# Altium schematic symbol library a_Valider_LDG.SchLib: 17 symbols
Pins are listed as number, name and electrical type; pins without a type are passive.

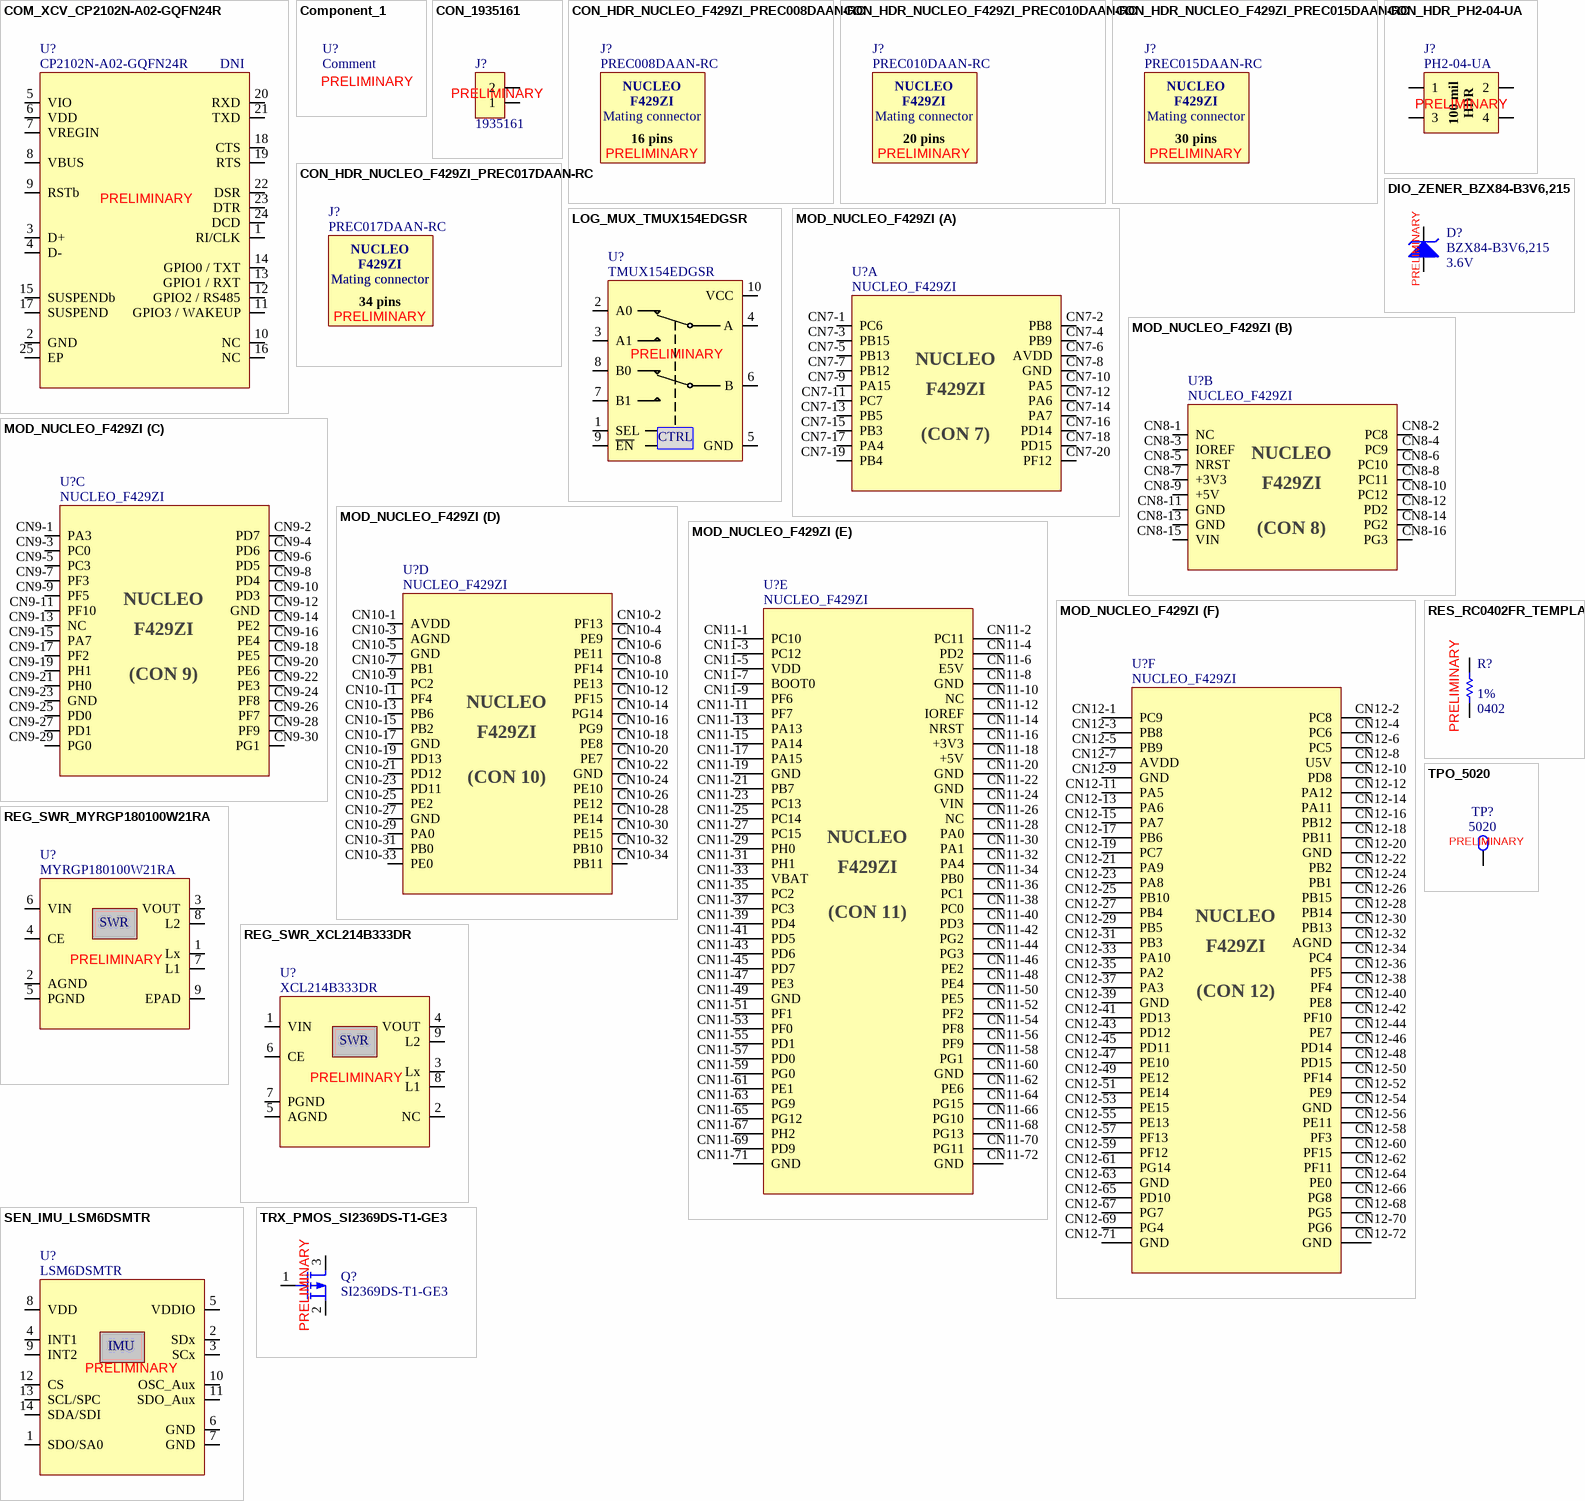
[diagram p0: symbols COM_XCV_CP2102N-A02-GQFN24R to TRX_PMOS_SI2369DS-T1-GE3]

## COM_XCV_CP2102N-A02-GQFN24R
designator U?, comment CP2102N-A02-GQFN24R  Assembly Note: DNI
COM_XCV - IC USB TO UART BRIDGE - 24-QFN (4x4); Manufacturer #1: Silicon Labs; Voltage Rating: 3V ~ 3.6V; Current Rating: 9.5mA; Power Max: 35mW; GRAMS Lib Spec: 2.8c; Magnetic Material: Unknown; Polarized: YES; Value: -; Tolerance: -; HelpURL: https://www.silabs.com/documents/public/data-sheets/cp2102n-datasheet.pdf; CreatedBy/Date: Louis-Daniel Gaulin / 06-10-2020; Temperature: -40°C ~ 85°C (TA); Package: 24-QFN (4x4); Manufacturer #2: -; Note: -; Assembly Type: SMD; Part Number #2: -; Part Number #1: CP2102N-A02-GQFN24R; Supplier 1: Digi-Key; Supplier Part Number 1: 336-5888-1-ND
footprint COM_XCV_CP2102N-A02-GQFN24R (QFN, 24-Leads, Body 4.00x4.00mm, Pitch 0.50mm, Thermal Pad 2.55x2.55mm, IPC Medium Density)
pins: 1 RI/CLK, 2 GND, 3 D+, 4 D-, 5 VIO, 6 VDD, 7 VREGIN, 8 VBUS, 9 RSTb, 10 NC, 11 GPIO3 / WAKEUP, 12 GPIO2 / RS485, 13 GPIO1 / RXT, 14 GPIO0 / TXT, 15 SUSPENDb, 16 NC, 17 SUSPEND, 18 CTS, 19 RTS, 20 RXD, 21 TXD, 22 DSR, 23 DTR, 24 DCD, 25 EP
text: PRELIMINARY

## Component_1
designator U?, comment Comment
XXX - Description - Package; GRAMS Lib Spec: 2.7
text: PRELIMINARY

## CON_1935161
designator J?, comment 1935161
CON - TERM BLK 2POS SIDE ENTRY 5MM PCB - TH; Manufacturer #1: Phoenix Contact; Current Rating: 18A; Magnetic Material: Unknown; Polarized: Yes; Voltage Rating: 400V; GRAMS Lib Spec: 2.8; Assembly Type: TH; Manufacturer #2: *; Note: *; Part Number #1: 1935161; Part Number #2: *; Package: TH; Power Max: *; Value: *; Temperature: -40 °C ~ 100 °C; HelpURL: https://media.digikey.com/pdf/Data%20Sheets/Phoenix%20Contact%20PDFs/1935161.pdf; CreatedBy/Date: Louis-Daniel Gaulin / 02-11-2020; Supplier 1: Digi-Key; Supplier Part Number 1: 277-1667-ND; Tolerance: *; Cryo: UNKNOWN
footprint CON_ 1935161
pins: 1, 2
text: PRELIMINARY

## CON_HDR_NUCLEO_F429ZI_PREC008DAAN-RC
designator J?, comment PREC008DAAN-RC
CON - Header 16 positions 2x8  0.100" - TH; Manufacturer #1: Sullins Connector Solutions; Current Rating: 3A; GRAMS Lib Spec: 2.8; Magnetic Material: Unknown; Polarized: No; Voltage Rating: 1000VAC; Assembly Type: TH; CreatedBy/Date: Louis-Daniel Gaulin / 21-10-2020; HelpURL: https://drawings-pdf.s3.amazonaws.com/11636.pdf; Manufacturer #2: *; Package: TH; Part Number #2: *; Power Max: *; Supplier 1: Digi-Key; Supplier Part Number 1: S2012EC-08-ND; Temperature: -55°C ~ 105°C; Tolerance: *; Value: *; Part Number #1: PREC008DAAN-RC; Cryo: UNKNOWN
footprint CON_HDR_NUCLEO_F429ZI_C008DAAN-RC
text: NUCLEO; F429ZI; Mating connector; 16 pins; PRELIMINARY

## CON_HDR_NUCLEO_F429ZI_PREC010DAAN-RC
designator J?, comment PREC010DAAN-RC
CON - Header 20 positions 2x10  0.100" - TH; Manufacturer #1: Sullins Connector Solutions; Current Rating: 3A; GRAMS Lib Spec: 2.8; Magnetic Material: Unknown; Polarized: No; Voltage Rating: 1000VAC; Assembly Type: TH; CreatedBy/Date: Louis-Daniel Gaulin / 21-10-2020; HelpURL: https://drawings-pdf.s3.amazonaws.com/11636.pdf; Manufacturer #2: *; Package: TH; Part Number #2: *; Power Max: *; Supplier 1: Digi-Key; Supplier Part Number 1: S2012EC-10-ND; Temperature: -55°C ~ 105°C; Tolerance: *; Value: *; Part Number #1: PREC010DAAN-RC; Cryo: UNKNOWN
footprint CON_HDR_NUCLEO_F429ZI_C010DAAN-RC
text: NUCLEO; F429ZI; Mating connector; 20 pins; PRELIMINARY

## CON_HDR_NUCLEO_F429ZI_PREC015DAAN-RC
designator J?, comment PREC015DAAN-RC
CON - Header 30 positions 2x15  0.100" - TH; Manufacturer #1: Sullins Connector Solutions; Current Rating: 3A; GRAMS Lib Spec: 2.8; Magnetic Material: Unknown; Polarized: No; Voltage Rating: 1000VAC; Assembly Type: TH; CreatedBy/Date: Louis-Daniel Gaulin / 21-10-2020; HelpURL: https://drawings-pdf.s3.amazonaws.com/11636.pdf; Manufacturer #2: *; Package: TH; Part Number #2: *; Power Max: *; Supplier 1: Digi-Key; Supplier Part Number 1: S2012EC-15-ND; Temperature: -55°C ~ 105°C; Tolerance: *; Value: *; Part Number #1: PREC015DAAN-RC; Cryo: UNKNOWN
footprint CON_HDR_NUCLEO_F429ZI_C015DAAN-RC
text: NUCLEO; F429ZI; Mating connector; 30 pins; PRELIMINARY

## CON_HDR_NUCLEO_F429ZI_PREC017DAAN-RC
designator J?, comment PREC017DAAN-RC
CON - Header 34 positions 2x17  0.100" - TH; Manufacturer #1: Sullins Connector Solutions; Current Rating: 3A; GRAMS Lib Spec: 2.8; Magnetic Material: Unknown; Polarized: No; Voltage Rating: 1000VAC; Assembly Type: TH; CreatedBy/Date: Louis-Daniel Gaulin / 21-10-2020; HelpURL: https://drawings-pdf.s3.amazonaws.com/11636.pdf; Manufacturer #2: *; Package: TH; Part Number #2: *; Power Max: *; Supplier 1: Digi-Key; Supplier Part Number 1: S2012EC-17-ND; Temperature: -55°C ~ 105°C; Tolerance: *; Value: *; Part Number #1: PREC017DAAN-RC; Cryo: UNKNOWN
footprint CON_HDR_NUCLEO_F429ZI_C017DAAN-RC
text: NUCLEO; F429ZI; Mating connector; 34 pins; PRELIMINARY

## CON_HDR_PH2-04-UA
designator J?, comment PH2-04-UA
CON - Header 4 positions 2x2  0.100" - TH; Manufacturer #1: Adam Tech; Current Rating: 3A; GRAMS Lib Spec: 2.8; Magnetic Material: Unknown; Polarized: Yes; Voltage Rating: 250 VAC; Assembly Type: TH; CreatedBy/Date: Louis-Daniel Gaulin / 30-07-2020; HelpURL: http://www.adam-tech.com/downloader.php?p=PH2-XX-UA.pdf; Manufacturer #2: *; Package: TH; Part Number #2: *; Power Max: *; Supplier 1: Digi-Key; Supplier Part Number 1: 2057-PH2-04-UA-ND; Temperature: -55°C ~ 105°C; Tolerance: *; Value: *; Part Number #1: PH2-04-UA; Cryo: UNKNOWN
footprint CON_HDR_PH2-04-UA
pins: 1, 2, 3, 4
text: 100 mil; HDR; PRELIMINARY

## DIO_ZENER_BZX84-B3V6,215
designator D?, comment BZX84-B3V6,215  value 3.6V
DIO - ZENER 3.6V 250mW - SOT-23; Manufacturer #1: Nexperia USA Inc.; Current Rating: 70mA; GRAMS Lib Spec: 2.8; Magnetic Material: Unknown; Polarized: Yes; Tolerance: 2%; Assembly Type: SMD; CreatedBy/Date: Louis-Daniel Gaulin / 30-07-2020; HelpURL: https://assets.nexperia.com/documents/data-sheet/BZX84_SER.pdf; Manufacturer #2: -; Note: -; Package: SOT-23; Part Number #1: BZX84-B3V6,215; Part Number #2: -; Power Max: 250mW; Temperature: -65°C ~ 150°C; Voltage Rating: 3.6V; Supplier 1: Digi-Key; Supplier Part Number 1: 1727-6252-1-ND; Cryo: UNKNOWN
footprint DIO_ZENER_BZX84-B3V6,215
pins: 1 A, 2 NC hidden, 3 K
text: PRELIMINARY

## LOG_MUX_TMUX154EDGSR
designator U?, comment TMUX154EDGSR
LOG_MUX -  SWITCH SPDT DUAL 2:1 - 10-VSSOP; Manufacturer #1: Texas Instruments; Voltage Rating: 3V ~ 4.3V; Current Rating: 10uA; Power Max: 50uW; GRAMS Lib Spec: 2.8C; Magnetic Material: Unknown; Polarized: YES; Value: -; Tolerance: -; HelpURL: https://www.ti.com/lit/ds/symlink/tmux154e.pdf?HQS=TI-null-null-digikeymode-df-pf-null-wwe&ts=1602037764538; CreatedBy/Date: Louis-Daniel Gaulin / 06-10-2020; Temperature: -40°C ~ 85°C; Package: 10-VSSOP; Manufacturer #2: -; Note: -; Assembly Type: SMD; Part Number #2: -; Part Number #1: TMUX154EDGSR; Supplier 1: Digi-Key; Supplier Part Number 1: 296-48347-1-ND
footprint LOG_MUX_TMUX154EDGSR (TSSOP, 10-Leads, Body 3.00x3.00mm, Pitch 0.50mm, IPC Medium Density)
pins: 1 SEL, 2 A0, 3 A1, 4 A, 5 GND, 6 B, 7 B1, 8 B0, 9 ~{EN}, 10 VCC
text: PRELIMINARY; CTRL

## MOD_NUCLEO_F429ZI
designator U?, comment NUCLEO_F429ZI
MOD - F429ZI MCU Nucleo development board - MOD; Manufacturer #1: STMicroelectronics; Part Number #1: NUCLEO-F429ZI; Voltage Rating: 3V3 ~ 12V; Current Rating: 800mA; Power Max: 9.6W; GRAMS Lib Spec: 2.8c; Magnetic Material: Unknown; Polarized: Yes; Value: -; Tolerance: -; HelpURL: https://www.st.com/resource/en/user_manual/dm00244518-stm32-nucleo144-boards-mb1137-stmicroelectronics.pdf; CreatedBy/Date: Louis-Daniel Gaulin; Temperature: *; Package: *; Manufacturer #2: *; Note: *; Assembly Type: TH; Part Number #2: -; Supplier 1: Digi-Key; Supplier Part Number 1: 497-16280-ND; Parameter 1: -; Cryo: UNKNOWN
footprint MOD_NUCLEO-F429ZI
part A pins: CN7-1 PC6, CN7-2 PB8, CN7-3 PB15, CN7-4 PB9, CN7-5 PB13, CN7-6 AVDD, CN7-7 PB12, CN7-8 GND, CN7-9 PA15, CN7-10 PA5, CN7-11 PC7, CN7-12 PA6, CN7-13 PB5, CN7-14 PA7, CN7-15 PB3, CN7-16 PD14, CN7-17 PA4, CN7-18 PD15, CN7-19 PB4, CN7-20 PF12
part B pins: CN8-1 NC, CN8-2 PC8, CN8-3 IOREF, CN8-4 PC9, CN8-5 NRST, CN8-6 PC10, CN8-7 +3V3, CN8-8 PC11, CN8-9 +5V, CN8-10 PC12, CN8-11 GND, CN8-12 PD2, CN8-13 GND, CN8-14 PG2, CN8-15 VIN, CN8-16 PG3
part C pins: CN9-1 PA3, CN9-2 PD7, CN9-3 PC0, CN9-4 PD6, CN9-5 PC3, CN9-6 PD5, CN9-7 PF3, CN9-8 PD4, CN9-9 PF5, CN9-10 PD3, CN9-11 PF10, CN9-12 GND, CN9-13 NC, CN9-14 PE2, CN9-15 PA7, CN9-16 PE4, CN9-17 PF2, CN9-18 PE5, CN9-19 PH1, CN9-20 PE6, CN9-21 PH0, CN9-22 PE3, CN9-23 GND, CN9-24 PF8, CN9-25 PD0, CN9-26 PF7, CN9-27 PD1, CN9-28 PF9, CN9-29 PG0, CN9-30 PG1
part D pins: CN10-1 AVDD, CN10-2 PF13, CN10-3 AGND, CN10-4 PE9, CN10-5 GND, CN10-6 PE11, CN10-7 PB1, CN10-8 PF14, CN10-9 PC2, CN10-10 PE13, CN10-11 PF4, CN10-12 PF15, CN10-13 PB6, CN10-14 PG14, CN10-15 PB2, CN10-16 PG9, CN10-17 GND, CN10-18 PE8, CN10-19 PD13, CN10-20 PE7, CN10-21 PD12, CN10-22 GND, CN10-23 PD11, CN10-24 PE10, CN10-25 PE2, CN10-26 PE12, CN10-27 GND, CN10-28 PE14, CN10-29 PA0, CN10-30 PE15, CN10-31 PB0, CN10-32 PB10, CN10-33 PE0, CN10-34 PB11
part E pins: CN11-1 PC10, CN11-2 PC11, CN11-3 PC12, CN11-4 PD2, CN11-5 VDD, CN11-6 E5V, CN11-7 BOOT0, CN11-8 GND, CN11-9 PF6, CN11-10 NC, CN11-11 PF7, CN11-12 IOREF, CN11-13 PA13, CN11-14 NRST, CN11-15 PA14, CN11-16 +3V3, CN11-17 PA15, CN11-18 +5V, CN11-19 GND, CN11-20 GND, CN11-21 PB7, CN11-22 GND, CN11-23 PC13, CN11-24 VIN, CN11-25 PC14, CN11-26 NC, CN11-27 PC15, CN11-28 PA0, CN11-29 PH0, CN11-30 PA1, CN11-31 PH1, CN11-32 PA4, CN11-33 VBAT, CN11-34 PB0, CN11-35 PC2, CN11-36 PC1, CN11-37 PC3, CN11-38 PC0, CN11-39 PD4, CN11-40 PD3, CN11-41 PD5, CN11-42 PG2, CN11-43 PD6, CN11-44 PG3, CN11-45 PD7, CN11-46 PE2, CN11-47 PE3, CN11-48 PE4, CN11-49 GND, CN11-50 PE5, CN11-51 PF1, CN11-52 PF2, CN11-53 PF0, CN11-54 PF8, CN11-55 PD1, CN11-56 PF9, CN11-57 PD0, CN11-58 PG1, CN11-59 PG0, CN11-60 GND, CN11-61 PE1, CN11-62 PE6, CN11-63 PG9, CN11-64 PG15, CN11-65 PG12, CN11-66 PG10, CN11-67 PH2, CN11-68 PG13, CN11-69 PD9, CN11-70 PG11, CN11-71 GND, CN11-72 GND
part F pins: CN12-1 PC9, CN12-2 PC8, CN12-3 PB8, CN12-4 PC6, CN12-5 PB9, CN12-6 PC5, CN12-7 AVDD, CN12-8 U5V, CN12-9 GND, CN12-10 PD8, CN12-11 PA5, CN12-12 PA12, CN12-13 PA6, CN12-14 PA11, CN12-15 PA7, CN12-16 PB12, CN12-17 PB6, CN12-18 PB11, CN12-19 PC7, CN12-20 GND, CN12-21 PA9, CN12-22 PB2, CN12-23 PA8, CN12-24 PB1, CN12-25 PB10, CN12-26 PB15, CN12-27 PB4, CN12-28 PB14, CN12-29 PB5, CN12-30 PB13, CN12-31 PB3, CN12-32 AGND, CN12-33 PA10, CN12-34 PC4, CN12-35 PA2, CN12-36 PF5, CN12-37 PA3, CN12-38 PF4, CN12-39 GND, CN12-40 PE8, CN12-41 PD13, CN12-42 PF10, CN12-43 PD12, CN12-44 PE7, CN12-45 PD11, CN12-46 PD14, CN12-47 PE10, CN12-48 PD15, CN12-49 PE12, CN12-50 PF14, CN12-51 PE14, CN12-52 PE9, CN12-53 PE15, CN12-54 GND, CN12-55 PE13, CN12-56 PE11, CN12-57 PF13, CN12-58 PF3, CN12-59 PF12, CN12-60 PF15, CN12-61 PG14, CN12-62 PF11, CN12-63 GND, CN12-64 PE0, CN12-65 PD10, CN12-66 PG8, CN12-67 PG7, CN12-68 PG5, CN12-69 PG4, CN12-70 PG6, CN12-71 GND, CN12-72 GND
part A text: NUCLEO; F429ZI; (CON 7)
part B text: NUCLEO; F429ZI; (CON 8)
part C text: NUCLEO; F429ZI; (CON 9)
part D text: NUCLEO; F429ZI; (CON 10)
part E text: NUCLEO; F429ZI; (CON 11)
part F text: NUCLEO; F429ZI; (CON 12)

## REG_SWR_MYRGP180100W21RA
designator U?, comment MYRGP180100W21RA
REG_DC DC CONVERTER 1.8V 1.8W_8-PowerTDFN; Manufacturer #1: Murata Power Solutions Inc.; Voltage Rating: 2.5V to 5.5V IN; Current Rating: 1A; GRAMS Lib Spec: 2.8; Magnetic Material: Unknown; Polarized: Yes; Value: 1.8V; Tolerance: *; Power Max: *; HelpURL: https://www.murata.com/products/productdata/8807036026910/MYRGP-b-w.pdf?1583754814000; CreatedBy/Date: Louis-Daniel Gaulin / 21-07-2020; VerifiedBy: *; Temperature: -40°C~105°C; Package: 8-PowerTDFN; Manufacturer #2: *; Note: *; Assembly Type: SMD; Part Number #2: *; Part Number #1: MYRGP180100W21RA; Supplier 1: Digi-Key; Supplier Part Number 1: 811-MYRGP180100W21RATR-ND; Cryo: UNKNOWN
footprint REG_SWR_MYRGP180100W21RA
pins: 1 Lx, 2 AGND, 3 VOUT, 4 CE, 5 PGND, 6 VIN, 7 L1, 8 L2, 9 EPAD
text: SWR; PRELIMINARY

## REG_SWR_XCL214B333DR
designator U?, comment XCL214B333DR
REG_DC DC CONVERTER 3.3V 5W_9-PowerTFQFN; Manufacturer #1: Torex Semiconductor Ltd; Voltage Rating: 2.7V to 5.5V IN; Current Rating: 1.5A; GRAMS Lib Spec: 2.8; Magnetic Material: Unknown; Polarized: Yes; Value: 3.3V; Tolerance: *; Power Max: *; HelpURL: https://www.torexsemi.com/file/xcl213/XCL213-XCL214.pdf; CreatedBy/Date: Louis-Daniel Gaulin / 21-07-2020; VerifiedBy: *; Temperature: -40°C~85°C; Package: 9-PowerTFQFN; Manufacturer #2: *; Note: *; Assembly Type: SMD; Part Number #2: *; Part Number #1: XCL214B333DR; Supplier 1: Digi-Key; Supplier Part Number 1: 893-1218-2-ND; Cryo: UNKNOWN
footprint REG_SWR_XCL214B333DR
pins: 1 VIN, 2 NC, 3 Lx, 4 VOUT, 5 AGND, 6 CE, 7 PGND, 8 L1, 9 L2
text: SWR; PRELIMINARY

## RES_RC0402FR_TEMPLATE
designator R?, comment Tolerance: 1%  Package: 0402  (hidden comment: RC0402FR- XXXXX)
RES - XXXX 1% 1/16W - 0402; Manufacturer #1: Yageo; GRAMS Lib Spec: 2.8c; Magnetic Material: Unknown; Polarized: No; Voltage Rating: 50V; Assembly Type: SMD; CreatedBy/Date: Louis-Daniel Gaulin; Current Rating: *; Manufacturer #2: *; Note: *; Part Number #2: *; Power Max: 1/16W; Temperature: -55°C ~ 155°C; Supplier 1: Digi-Key
footprint RES_0402 (Resistor - 0402)
pins: 1, 2
text: PRELIMINARY

## SEN_IMU_LSM6DSMTR
designator U?, comment LSM6DSMTR
SEN_IMU -  ACCEL/GYRO 6 Axis I2C/SPI - 14-VFLGA; Manufacturer #1: STMicroelectronics; Voltage Rating: 1.71V ~ 3.6V; Current Rating: 0.65mA; Power Max: 3mW; GRAMS Lib Spec: 2.7c; Magnetic Material: Unknown; Polarized: YES; Value: -; Tolerance: -; HelpURL: https://www.st.com/content/ccc/resource/technical/document/datasheet/76/27/cf/88/c5/03/42/6b/DM00218116.pdf/files/DM00218116.pdf/jcr:content/translations/en.DM00218116.pdf; CreatedBy/Date: Louis-Daniel Gaulin / 06-10-2020; Temperature: -40°C ~ 85°C (TA); Package: 14-VFLGA; Manufacturer #2: -; Note: -; Assembly Type: SMD; Part Number #2: -; Part Number #1: LSM6DSMTR; Supplier 1: Digi-Key; Supplier Part Number 1: 497-16696-1-ND
footprint SEN_IMU_LSM6DSMTR
pins: 1 SDO/SA0, 2 SDx, 3 SCx, 4 INT1, 5 VDDIO, 6 GND, 7 GND, 8 VDD, 9 INT2, 10 OSC_Aux, 11 SDO_Aux, 12 CS, 13 SCL/SPC, 14 SDA/SDI
text: IMU; PRELIMINARY

## TPO_5020
designator TP?, comment 5020
TPO - TEST POINT - TH; Manufacturer #1: Keystone Electronics; Polarized: No; Magnetic Material: UNKNOWN; GRAMS Lib Spec: 2.8; Current Rating: *; Manufacturer #2: *; Note: *; Power Max: *; Value: *; Part Number #1: 5020; Part Number #2: *; HelpURL: https://www.keyelco.com/userAssets/file/M65p56.pdf; Supplier 1: Digi-Key; Assembly Type: TH; Package: *; CreatedBy/Date: Louis-Daniel Gauli / 02-11-2020; Temperature: *; Tolerance: *; Voltage Rating: *; Supplier Part Number 1: 36-5020-ND; Cryo: UNKNOWN
footprint TPO_5020
pins: 1
text: PRELIMINARY

## TRX_PMOS_SI2369DS-T1-GE3
designator Q?, comment SI2369DS-T1-GE3
TRX - PMOS 30V 7.6A - SOT−23; Manufacturer #1: Vishay Siliconix; GRAMS Lib Spec: 2.8; Magnetic Material: Unknown; Polarized: Yes; Power Max: 1.25W; Assembly Type: SMD; CreatedBy/Date: Louis-Daniel Gaulin / 30-07-2020; Current Rating: 7.6A; HelpURL: https://www.vishay.com/docs/62865/si2369d.pdf; Manufacturer #2: *; Package: SOT-23; Part Number #1: SI2369DS-T1-GE3; Part Number #2: *; Supplier 1: Digi-Key; Supplier Part Number 1: SI2369DS-T1-GE3CT-ND; Temperature: -55°C ~ 150°C; Tolerance: *; Value: *; Voltage Rating: 30V; Cryo: UNKNOWN
footprint TRX_PMOS_SI2369DS-T1-GE3
pins: 1 G, 2 S, 3 D
text: PRELIMINARY